# EAGLE library part ADN4664 (library FMC_prototype)
Dual LVLDS to 3V3 CMOS differential line receiver
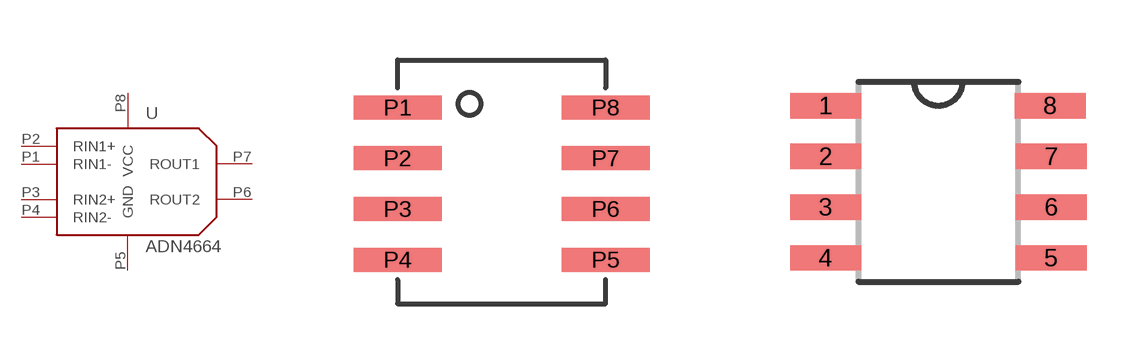
[diagram p2: symbol with the pads of 8-SOIC; footprints 8-SOIC, SOIC127P500X400-8N]

Designator prefix -

## ADN4664  [8-SOIC]
P1  RIN1-
P2  RIN1+
P3  RIN2+
P4  RIN2-
P5  GND
P6  ROUT2
P7  ROUT1
P8  VCC

## ADN4664_SOIC  [SOIC127P500X400-8N]
1  RIN1-
2  RIN1+
3  RIN2+
4  RIN2-
5  GND
6  ROUT2
7  ROUT1
8  VCC

## Footprint 8-SOIC (pad centres in mm)
smd 2.2 x 0.6: P1 0,3.81; P2 0,2.54; P3 0,1.27; P4 0,0; P5 5.2,0; P6 5.2,1.27; P7 5.2,2.54; P8 5.2,3.81

## Footprint SOIC127P500X400-8N (pad centres in mm)
smd 1.778 x 0.635: 1 -2.819,1.905; 2 -2.819,0.635; 3 -2.819,-0.635; 4 -2.819,-1.905; 5 2.819,-1.905; 6 2.819,-0.635; 7 2.819,0.635; 8 2.794,1.905